# EAGLE library part DS3231M (library SparkFun-Clocks)
DS3231M Real Time Clock Accuracy +/-5ppm. Battery Backup. 2.3V to 5.5V. Datasheet <https://cdn.sparkfun.com/datasheets/Dev/Beagle/DS3231M.pdf> SparkFun Products CryptoCape <https://www.sparkfun.com/products/12773> (DEV-12773) SparkFun CryptoShield <https://www.sparkfun.com/products/13183> (DEV-13183)
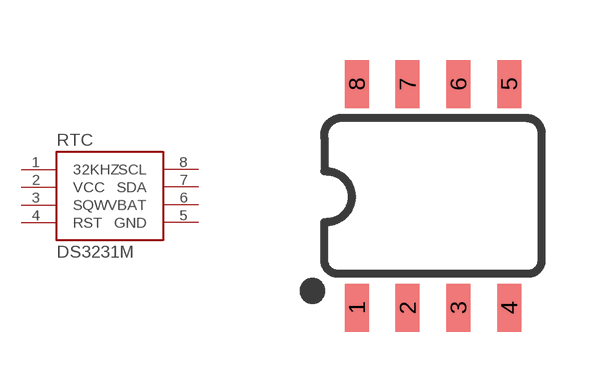
[diagram p1: symbol with the pads of SO08; footprint SO08]

Designator prefix RTC

## DS3231M (PROD_ID: IC-11985)  [SO08]
1  32KHZ  out
2  VCC  pwr
3  SQW  out
4  RST
5  GND  pwr
6  VBAT  pwr
7  SDA
8  SCL

## Footprint SO08 (pad centres in mm)
SOIC, 0.15 inch width
smd 0.6 x 1.2: 1 -1.905,-2.8; 2 -0.635,-2.8; 3 0.635,-2.8; 4 1.905,-2.8; 5 1.905,2.8; 6 0.635,2.8; 7 -0.635,2.8; 8 -1.905,2.8